# Altium schematic symbol library Schlib1.SchLib: 8 symbols
Pins are listed as number, name and electrical type; pins without a type are passive.

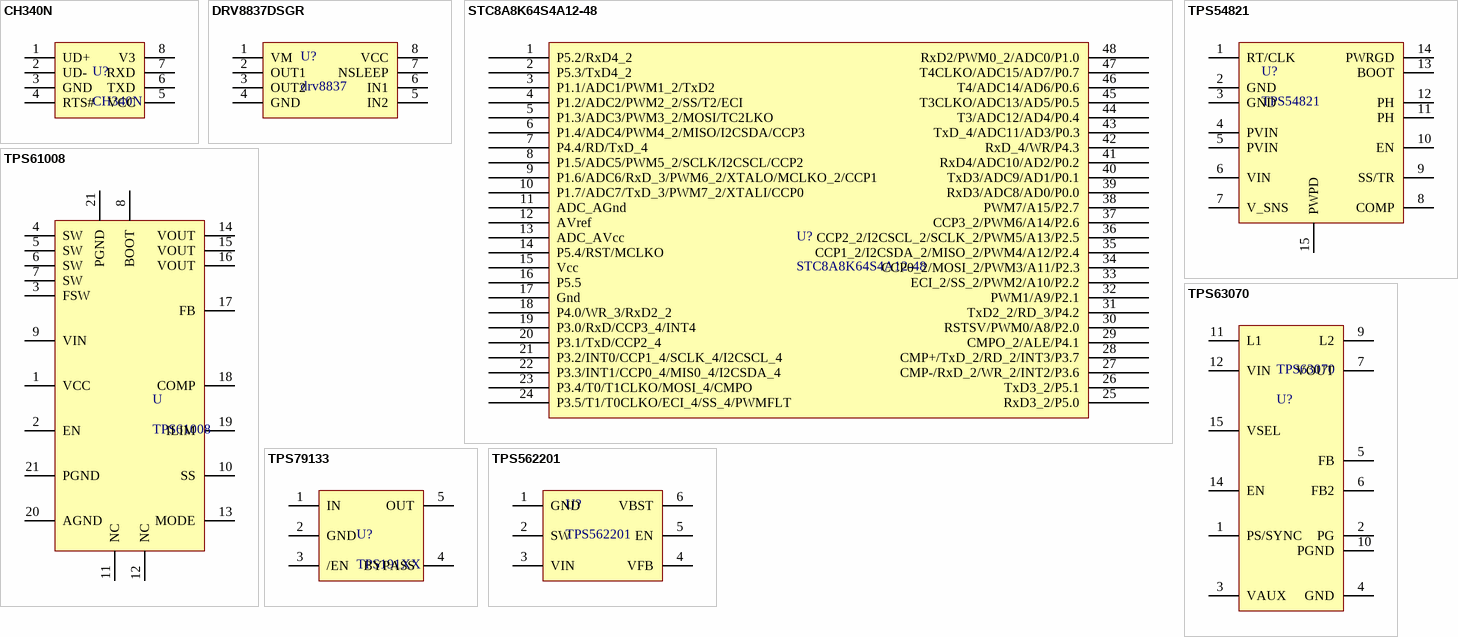
[diagram p0: symbols CH340N to TPS562201]

## CH340N
designator U?
pins: 1 UD+, 2 UD-, 3 GND, 4 RTS#, 5 VCC, 6 TXD, 7 RXD, 8 V3

## DRV8837DSGR
designator U?, comment drv8837
pins: 1 VM, 2 OUT1, 3 OUT2, 4 GND, 5 IN2, 6 IN1, 7 NSLEEP, 8 VCC

## STC8A8K64S4A12-48
designator U?
pins: 1 P5.2/RxD4_2, 2 P5.3/TxD4_2, 3 P1.1/ADC1/PWM1_2/TxD2, 4 P1.2/ADC2/PWM2_2/SS/T2/ECI, 5 P1.3/ADC3/PWM3_2/MOSI/TC2LKO, 6 P1.4/ADC4/PWM4_2/MISO/I2CSDA/CCP3, 7 P4.4/RD/TxD_4, 8 P1.5/ADC5/PWM5_2/SCLK/I2CSCL/CCP2, 9 P1.6/ADC6/RxD_3/PWM6_2/XTALO/MCLKO_2/CCP1, 10 P1.7/ADC7/TxD_3/PWM7_2/XTALI/CCP0, 11 ADC_AGnd, 12 AVref, 13 ADC_AVcc, 14 P5.4/RST/MCLKO, 15 Vcc, 16 P5.5, 17 Gnd, 18 P4.0/WR_3/RxD2_2, 19 P3.0/RxD/CCP3_4/INT4, 20 P3.1/TxD/CCP2_4, 21 P3.2/INT0/CCP1_4/SCLK_4/I2CSCL_4, 22 P3.3/INT1/CCP0_4/MIS0_4/I2CSDA_4, 23 P3.4/T0/T1CLKO/MOSI_4/CMPO, 24 P3.5/T1/T0CLKO/ECI_4/SS_4/PWMFLT, 25 RxD3_2/P5.0, 26 TxD3_2/P5.1, 27 CMP-/RxD_2/WR_2/INT2/P3.6, 28 CMP+/TxD_2/RD_2/INT3/P3.7, 29 CMPO_2/ALE/P4.1, 30 RSTSV/PWM0/A8/P2.0, 31 TxD2_2/RD_3/P4.2, 32 PWM1/A9/P2.1, 33 ECI_2/SS_2/PWM2/A10/P2.2, 34 CCP0_2/MOSI_2/PWM3/A11/P2.3, 35 CCP1_2/I2CSDA_2/MISO_2/PWM4/A12/P2.4, 36 CCP2_2/I2CSCL_2/SCLK_2/PWM5/A13/P2.5, 37 CCP3_2/PWM6/A14/P2.6, 38 PWM7/A15/P2.7, 39 RxD3/ADC8/AD0/P0.0, 40 TxD3/ADC9/AD1/P0.1, 41 RxD4/ADC10/AD2/P0.2, 42 RxD_4/WR/P4.3, 43 TxD_4/ADC11/AD3/P0.3, 44 T3/ADC12/AD4/P0.4, 45 T3CLKO/ADC13/AD5/P0.5, 46 T4/ADC14/AD6/P0.6, 47 T4CLKO/ADC15/AD7/P0.7, 48 RxD2/PWM0_2/ADC0/P1.0

## TPS54821
designator U?
pins: 1 RT/CLK, 2 GND, 3 GND, 4 PVIN, 5 PVIN, 6 VIN, 7 V_SNS, 8 COMP, 9 SS/TR, 10 EN, 11 PH, 12 PH, 13 BOOT, 14 PWRGD, 15 PWPD

## TPS61008
designator U
pins: 1 VCC, 2 EN, 3 FSW, 4 SW, 5 SW, 6 SW, 7 SW, 8 BOOT, 9 VIN, 10 SS, 11 NC, 12 NC, 13 MODE, 14 VOUT, 15 VOUT, 16 VOUT, 17 FB, 18 COMP, 19 ILIM, 20 AGND, 21 PGND, 21 PGND

## TPS63070
designator TPS63070, comment U?
pins: 1 PS/SYNC, 2 PG, 3 VAUX, 4 GND, 5 FB, 6 FB2, 7 VOUT, 9 L2, 10 PGND, 11 L1, 12 VIN, 14 EN, 15 VSEL

## TPS79133
designator U?, comment TPS191XX
pins: 1 IN, 2 GND, 3 /EN, 4 BYPASS, 5 OUT

## TPS562201
designator U?
pins: 1 GND, 2 SW, 3 VIN, 4 VFB, 5 EN, 6 VBST